# EAGLE library part 653115131822 (library Wurth_Elektronik_Electromechanic_Wire_to_Board_Connectors_rev16a)
WR-WTB 1.25mm SMT Male Horizontal Shrouded Header, 15 Pins=>Code : Con_WTB_1.25_PCB_SMT_653115131822 <http://katalog.we-online.de/media/thumbs2/eican/thb_Con_WTB_1.25_PCB_SMT_6531xx131822_pf2.jpg> Details see: http://katalog.we-online.de/en/em/653_1xx_131_822 Created 2014-06-06, Karrer Zheng 2014 (C) Würth Elektronik
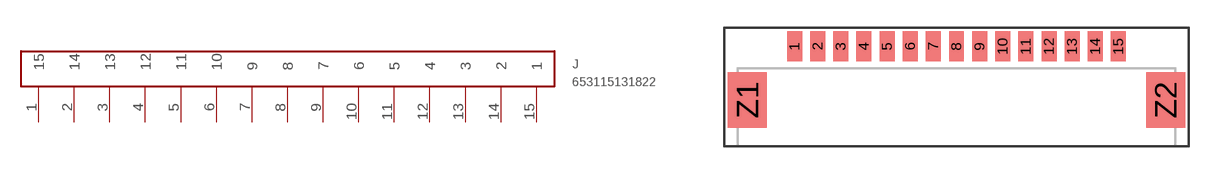
[diagram p72: symbol with the pads of 653115131822; footprint 653115131822]

Designator prefix J

## 653115131822  [653115131822]
1  15  pas
2  14  pas
3  13  pas
4  12  pas
5  11  pas
6  10  pas
7  9  pas
8  8  pas
9  7  pas
10  6  pas
11  5  pas
12  4  pas
13  3  pas
14  2  pas
15  1  pas

## Footprint 653115131822 (pad centres in mm)
WR-WTB 1.25mm SMT Male Horizontal Shrouded Header, 15 Pins
smd 0.81 x 1.6: 1 -0.625,0; 2 0.625,0; 3 1.875,0; 4 3.125,0; 5 4.375,0; 6 5.625,0; 7 6.875,0; 8 8.125,0; 9 9.375,0; 10 10.625,0; 11 11.875,0; 12 13.125,0; 13 14.375,0; 14 15.625,0; 15 16.875,0
smd 2.1 x 3: Z1 -3.175,-2.9; Z2 19.425,-2.9